# Altium schematic symbol library JSTXH_SCHLib_Hidde.SchLib: 7 symbols
Pins are listed as number, name and electrical type; pins without a type are passive.

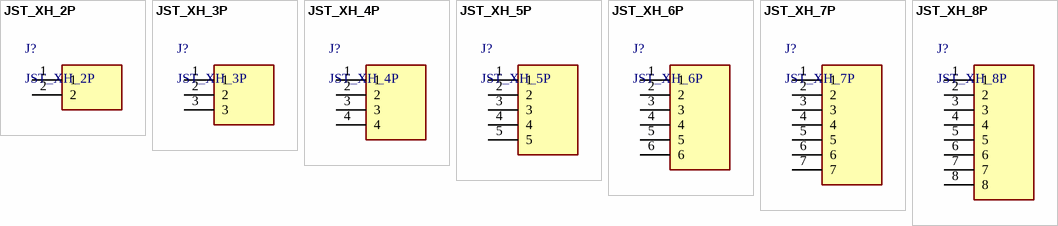
[diagram p0: symbols JST_XH_2P to JST_XH_8P]

## JST_XH_2P
designator J?
footprint JST_XH_STRAIGHT_2P_2.54mm
footprint JST_XH_ANGLED_2P_2.54mm
pins: 1, 2

## JST_XH_3P
designator J?
footprint JST_XH_STRAIGHT_3P_2.54mm
footprint JST_XH_ANGLED_3P_2.54mm
pins: 1, 2, 3

## JST_XH_4P
designator J?
footprint JST_XH_STRAIGHT_4P_2.54mm
footprint JST_XH_ANGLED_4P_2.54mm
pins: 1, 2, 3, 4

## JST_XH_5P
designator J?
footprint JST_XH_STRAIGHT_5P_2.54mm
footprint JST_XH_ANGLED_5P_2.54mm
pins: 1, 2, 3, 4, 5

## JST_XH_6P
designator J?
footprint JST_XH_STRAIGHT_6P_2.54mm
footprint JST_XH_ANGLED_6P_2.54mm
pins: 1, 2, 3, 4, 5, 6

## JST_XH_7P
designator J?
footprint JST_XH_STRAIGHT_7P_2.54mm
footprint JST_XH_ANGLED_7P_2.54mm
pins: 1, 2, 3, 4, 5, 6, 7

## JST_XH_8P
designator J?
footprint JST_XH_STRAIGHT_8P_2.54mm
footprint JST_XH_ANGLED_8P_2.54mm
pins: 1, 2, 3, 4, 5, 6, 7, 8